# EAGLE library part SH5-4 (library con-rib)
RIBBON CABLE CONNECTOR Flachstecker / Faston
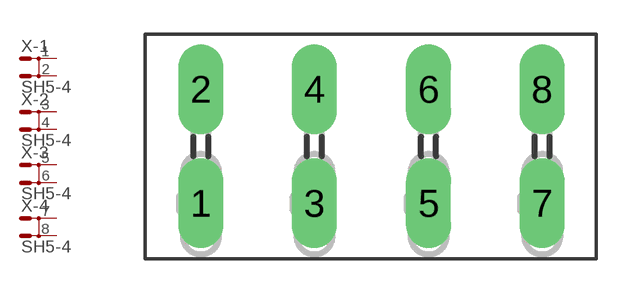
[diagram p0: symbol with the pads of SH5-4; footprint SH5-4]

Designator prefix X; gates -1=MD -2=MD -3=MD -4=MD

## SH5-4 (OC_FARNELL: unknown; OC_NEWARK: unknown)  [SH5-4]
1  -1:1  pas
2  -1:2  pas
3  -2:1  pas
4  -2:2  pas
5  -3:1  pas
6  -3:2  pas
7  -4:1  pas
8  -4:2  pas

## Footprint SH5-4 (pad centres in mm)
RIBBON CABLE CONNECTOR Flachstecker / Faston
drill 1.321 long: 1 -7.518,-2.515; 2 -7.518,2.515; 3 -2.515,-2.515; 4 -2.515,2.515; 5 2.515,-2.515; 6 2.515,2.515; 7 7.518,-2.515; 8 7.518,2.515